# Altium schematic symbol library Socket 4.SchLib: 1 symbol
Pins are listed as number, name and electrical type; pins without a type are passive.

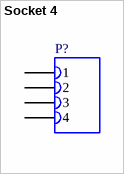
[diagram p0: symbol Socket 4]

## Socket 4
designator P?
Socket (Female header), 4-Pin
pins: 1, 2, 3, 4